# Altium integrated library PCB_Project1.IntLib: 11 symbols
Pins are listed as number, name and electrical type; pins without a type are passive.

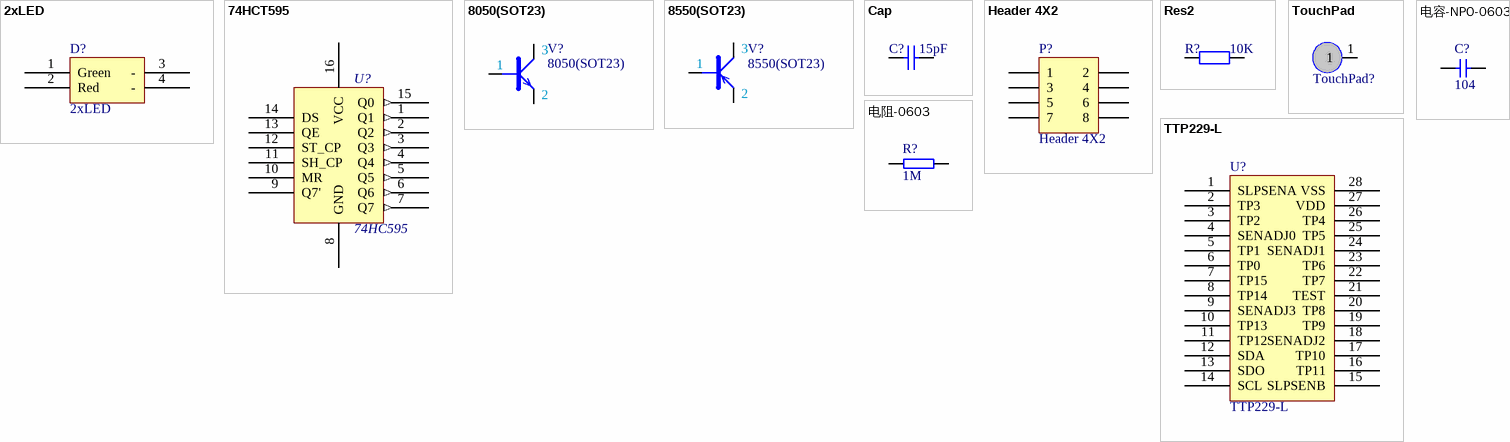
[diagram p0: symbols 2xLED to 电阻-0603]

## 2xLED
designator D?
footprint LED
pins: 1 Green, 2 Red, 3 -, 4 -

## 74HCT595
designator U?, comment 74HC595
footprint LC-SOP-16_150mil
pins: 1 Q1 (out), 2 Q2 (out), 3 Q3 (out), 4 Q4 (out), 5 Q5 (out), 6 Q6 (out), 7 Q7 (out), 8 GND (power), 9 Q7', 10 MR, 11 SH_CP, 12 ST_CP, 13 QE, 14 DS, 15 Q0 (out), 16 VCC (power)
2 alternate drawings of the same symbol

## 8050(SOT23)
designator V?
footprint SOT-23R
pins: 1 B, 2 E, 3 C
2 alternate drawings of the same symbol

## 8550(SOT23)
designator V?
footprint SOT-23R
pins: 1 B, 2 E, 3 C
2 alternate drawings of the same symbol

## Cap
designator C?, comment 15pF
Capacitor; Published: 8-Jun-2000; LatestRevisionDate: 17-Jul-2002; LatestRevisionNote: Re-released for DXP Platform.; PackageReference: RAD-0.3; Publisher: Altium Limited; Value: 15pF
simulation model CAP (Capacitor)
signal-integrity model Cap
footprint 0603p
pins: 1, 2

## Header 4X2
designator P?
Header, 4-Pin, Dual row; LatestRevisionDate: 17-Jul-2002; LatestRevisionNote: Re-released for DXP Platform.; Publisher: Altium Limited
footprint HDR2X4 (Connector; Header; 4x2 Position)
signal-integrity model Connector
pins: 1, 2, 3, 4, 5, 6, 7, 8

## Res2
designator R?, comment 10K
Resistor; Published: 8-Jun-2000; LatestRevisionDate: 17-Jul-2002; LatestRevisionNote: Re-released for DXP Platform.; PackageReference: AXIAL-0.4; Publisher: Altium Limited; Value: 10K
simulation model RESISTOR (Resistor)
signal-integrity model Res
footprint 0603p
pins: 1, 2

## TouchPad
designator TouchPad?  (value not drawn)
footprint TOUCHKEY
pins: 1

## TTP229-L
designator U?
footprint LC-SSOP-28_150mil
pins: 1 SLPSENA, 2 TP3, 3 TP2, 4 SENADJ0, 5 TP1, 6 TP0, 7 TP15, 8 TP14, 9 SENADJ3, 10 TP13, 11 TP12, 12 SDA, 13 SDO, 14 SCL, 15 SLPSENB, 16 TP11, 17 TP10, 18 SENADJ2, 19 TP9, 20 TP8, 21 TEST, 22 TP7, 23 TP6, 24 SENADJ1, 25 TP5, 26 TP4, 27 VDD, 28 VSS

## 电容-NPO-0603
designator C?, comment 104
0603/NPO
footprint 0603p
pins: 1, 2
2 alternate drawings of the same symbol

## 电阻-0603
designator R?, comment 1M
0603/0.1000w/75v; 产品规格: 0603
footprint 0603p
pins: 1, 2
2 alternate drawings of the same symbol